# Altium footprint library TSSOP-16.PcbLib: 1 footprints
Each footprint in its own frame and in the unit in brackets; x right, y up, seen from the top. Pads: shape width x height; smd on the part's side, far side on the other; paste and mask are expansions set on the pad; w line width, h text height; cw(c..) or ccw(c..) is an arc to the next point about the centre after c.
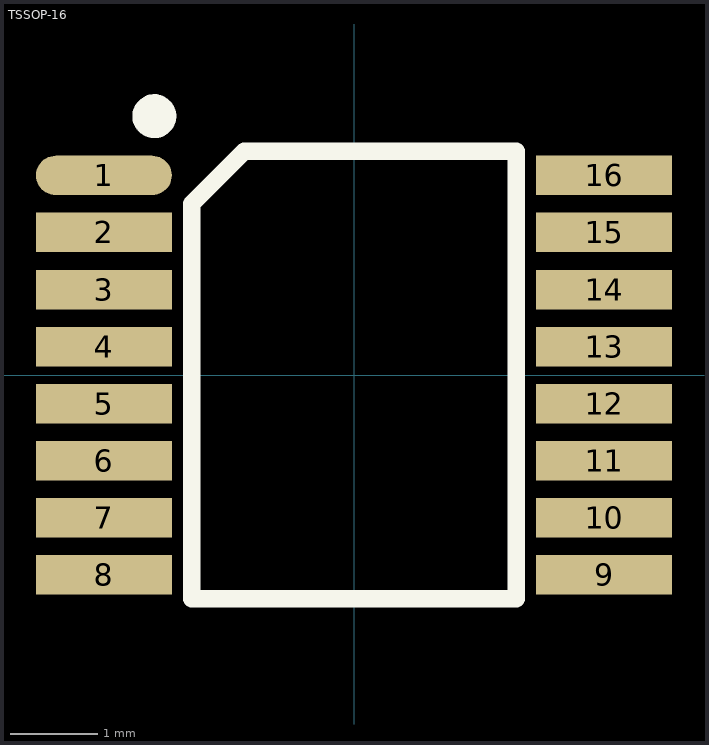
[diagram p0: the footprint, top view; thin cyan lines are the x and y axes]

## TSSOP-16 [mm] "16-pin Thin Small Outline Package"
height 1.2
pads (16):
  oval 1.55x0.45 smd: 1(-2.85,2.275)
  rect 1.55x0.45 smd: 2(-2.85,1.625) 3(-2.85,0.975) 4(-2.85,0.325) 5(-2.85,-0.325) 6(-2.85,-0.975) 7(-2.85,-1.625) 8(-2.85,-2.275) 9(2.85,-2.275) 10(2.85,-1.625) 11(2.85,-0.975) 12(2.85,-0.325) 13(2.85,0.325) 14(2.85,0.975) 15(2.85,1.625) 16(2.85,2.275)
Top Overlay:
  circle w0.25: c-2.275,2.95 r0.125
  lines w0.2: -1.85,-2.55 1.85,-2.55 1.85,2.55 -1.25,2.55 -1.85,1.95 -1.85,-2.55
3D body "TSSOP-16.step": height 1.2, standoff 0, extent -3.2,-2.55 3.2,2.55